# Altium footprint library con-phoenix-762.PCBLIB: 27 footprints (part 1 of 2)
Each footprint in its own frame and in the unit in brackets; x right, y up, seen from the top. Pads: shape width x height; smd on the part's side, far side on the other; paste and mask are expansions set on the pad; w line width, h text height; cw(c..) or ccw(c..) is an arc to the next point about the centre after c.
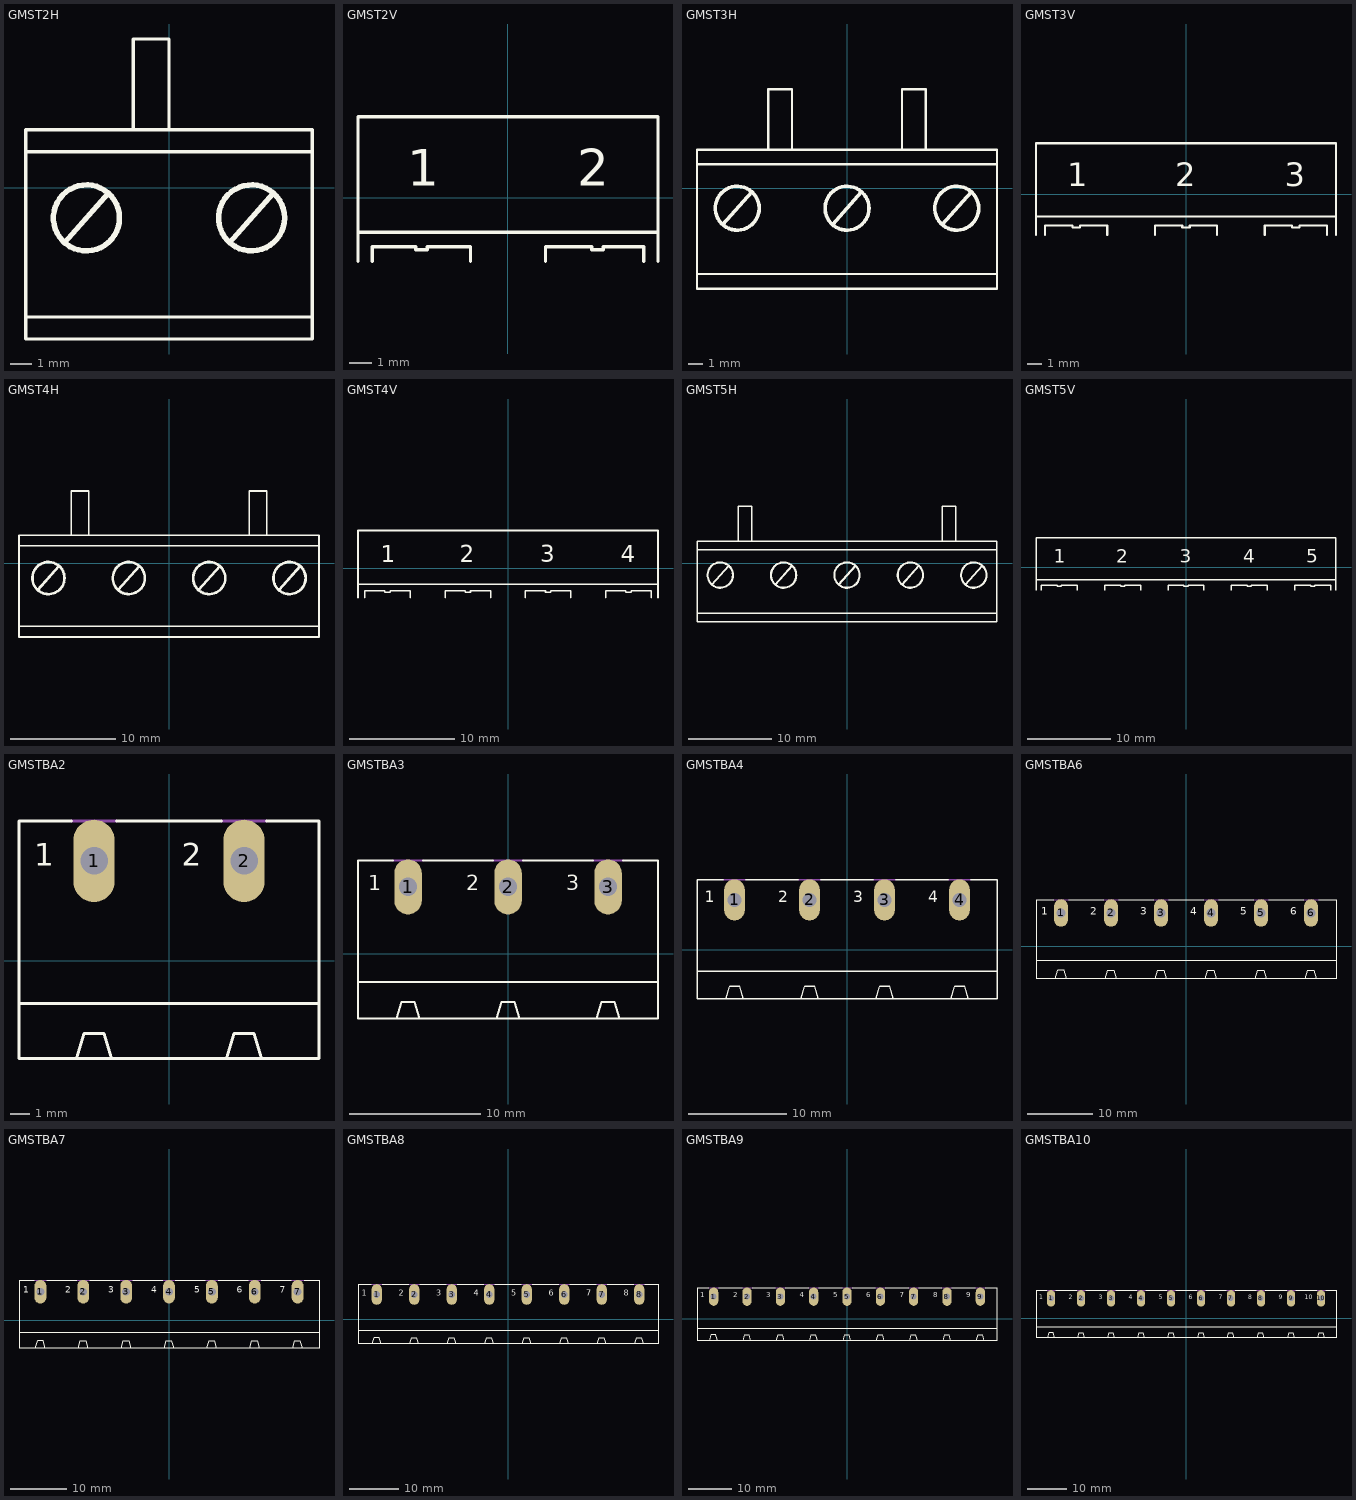
[diagram p0: the footprints below, top view; thin cyan lines are the x and y axes]

## GMST2H [mil]
Top Overlay:
  circle w10: c-150,-55 r60
  circle w10: c150,-55 r60
  lines w6: -260,-235 -260,-275 260,-275 260,-235 ; -260,-235 260,-235 ; -260,-235 -260,65 ; -260,65 260,65 ; -260,65 -260,105 -65,105 ; -65,105 0,105 ; -65,105 -65,270 0,270 0,105 ; 0,105 260,105 260,65 ; 260,-235 260,65
  lines w10: -190,-100 -110,-10 ; 110,-100 190,-10

## GMST2V [mil]
Top Overlay:
  lines w6: -260,-110 -260,-60 ; -235,-110 -235,-85 -160,-85 -160,-90 -140,-90 -140,-85 -65,-85 -65,-110 ; 65,-110 65,-85 145,-85 145,-90 165,-90 165,-85 235,-85 235,-110 ; 260,-110 260,-60 ; -260,-60 -260,140 260,140 260,-60 ; -260,-60 260,-60
  text "1" at -175,0 h108.5
  text "2" at 120,0 h108.5

## GMST3H [mil]
Top Overlay:
  circle w10: c-300,-55 r60
  circle w10: c0,-55 r60
  circle w10: c300,-55 r60
  lines w6: -410,-235 -410,-275 410,-275 410,-235 ; -410,-235 410,-235 ; -410,-235 -410,65 ; -410,65 410,65 ; -410,65 -410,105 -215,105 ; -215,105 -150,105 ; -215,105 -215,270 -150,270 -150,105 ; -150,105 150,105 ; 150,105 215,105 ; 150,105 150,270 215,270 215,105 ; 215,105 410,105 410,65 ; 410,-235 410,65
  lines w10: -340,-100 -260,-10 ; -40,-100 40,-10 ; 260,-100 340,-10

## GMST3V [mil]
Top Overlay:
  lines w6: -410,-110 -410,-60 ; -385,-110 -385,-85 -310,-85 -310,-90 -290,-90 -290,-85 -215,-85 -215,-110 ; -85,-110 -85,-85 -10,-85 -10,-90 10,-90 10,-85 85,-85 85,-110 ; 215,-110 215,-85 290,-85 290,-90 310,-90 310,-85 385,-85 385,-110 ; 410,-110 410,-60 ; -410,-60 -410,140 410,140 410,-60 ; -410,-60 410,-60
  text "1" at -325,0 h108.5
  text "2" at -30,0 h108.5
  text "3" at 270,0 h108.5

## GMST4H [mil]
Top Overlay:
  circle w10: c-450,-55 r60
  circle w10: c-150,-55 r60
  circle w10: c450,-55 r60
  circle w10: c150,-55 r60
  lines w6: -560,-235 -560,-275 560,-275 560,-235 ; -560,-235 560,-235 ; -560,-235 -560,65 ; -560,65 560,65 ; -560,65 -560,105 -365,105 ; -365,105 -300,105 ; -365,105 -365,270 -300,270 -300,105 ; -300,105 300,105 ; 300,105 365,105 ; 300,105 300,270 365,270 365,105 ; 365,105 560,105 560,65 ; 560,-235 560,65
  lines w10: -490,-100 -410,-10 ; -190,-100 -110,-10 ; 110,-100 190,-10 ; 410,-100 490,-10

## GMST4V [mil]
Top Overlay:
  lines w6: -560,-110 -560,-60 ; -535,-110 -535,-85 -460,-85 -460,-90 -440,-90 -440,-85 -365,-85 -365,-110 ; -235,-110 -235,-85 -160,-85 -160,-90 -140,-90 -140,-85 -65,-85 -65,-110 ; 65,-110 65,-85 140,-85 140,-90 160,-90 160,-85 235,-85 235,-110 ; 365,-110 365,-85 440,-85 440,-90 460,-90 460,-85 535,-85 535,-110 ; 560,-110 560,-60 ; -560,-60 -560,140 560,140 560,-60 ; -560,-60 560,-60
  text "1" at -475,0 h108.5
  text "2" at -180,0 h108.5
  text "3" at 120,0 h108.5
  text "4" at 420,0 h108.5

## GMST5H [mil]
Top Overlay:
  circle w10: c-600,-55 r60
  circle w10: c-300,-55 r60
  circle w10: c600,-55 r60
  circle w10: c0,-55 r60
  circle w10: c300,-55 r60
  lines w6: -710,-235 -710,-275 710,-275 710,-235 ; -710,-235 710,-235 ; -710,-235 -710,65 ; -710,65 710,65 ; -710,65 -710,105 -515,105 ; -515,105 -450,105 ; -515,105 -515,270 -450,270 -450,105 ; -450,105 450,105 ; 450,105 515,105 ; 450,105 450,270 515,270 515,105 ; 515,105 710,105 710,65 ; 710,-235 710,65
  lines w10: -640,-100 -560,-10 ; -340,-100 -260,-10 ; -40,-100 40,-10 ; 260,-100 340,-10 ; 560,-100 640,-10

## GMST5V [mil]
Top Overlay:
  lines w6: -710,-110 -710,-60 ; -685,-110 -685,-85 -610,-85 -610,-90 -590,-90 -590,-85 -515,-85 -515,-110 ; -385,-110 -385,-85 -310,-85 -310,-90 -290,-90 -290,-85 -215,-85 -215,-110 ; -85,-110 -85,-85 -10,-85 -10,-90 10,-90 10,-85 85,-85 85,-110 ; 215,-110 215,-85 290,-85 290,-90 310,-90 310,-85 385,-85 385,-110 ; 515,-110 515,-85 590,-85 590,-90 610,-90 610,-85 685,-85 685,-110 ; 710,-110 710,-60 ; -710,-60 -710,140 710,140 710,-60 ; -710,-60 710,-60
  text "1" at -625,0 h108.5
  text "2" at -330,0 h108.5
  text "3" at -30,0 h108.5
  text "4" at 270,0 h108.5
  text "5" at 570,0 h108.5

## GMSTBA2 [mil]
pads (2):
  oval 82.5x165 hole 55: 1(-150,200) 2(150,200)
Top Overlay:
  lines w6: -195,280 -300,280 -300,-85 ; -185,-195 -170,-145 -130,-145 -115,-195 ; -105,280 105,280 ; 115,-195 130,-145 170,-145 185,-195 ; 195,280 300,280 300,-85 ; -300,-85 300,-85 ; -300,-85 -300,-195 300,-195 300,-85
  text "1" at -270,175 h77.5
  text "2" at 25,175 h77.5
Mechanical 16:
  lines w6: -195,280 -105,280 ; 105,280 195,280

## GMSTBA3 [mil]
pads (3):
  oval 82.5x165 hole 55: 1(-300,200) 2(0,200) 3(300,200)
Top Overlay:
  lines w6: -345,280 -450,280 -450,-85 ; -335,-195 -320,-145 -280,-145 -265,-195 ; -255,280 -45,280 ; -35,-195 -20,-145 20,-145 35,-195 ; 45,280 255,280 ; 265,-195 280,-145 320,-145 335,-195 ; 345,280 450,280 450,-85 ; -450,-85 450,-85 ; -450,-85 -450,-195 450,-195 450,-85
  text "1" at -420,175 h77.5
  text "2" at -125,175 h77.5
  text "3" at 175,175 h77.5
Mechanical 16:
  lines w6: -345,280 -255,280 ; -45,280 45,280 ; 255,280 345,280

## GMSTBA4 [mil]
pads (4):
  oval 82.5x165 hole 55: 1(-450,200) 2(-150,200) 3(150,200) 4(450,200)
Top Overlay:
  lines w6: -495,280 -600,280 -600,-85 ; -485,-195 -470,-145 -430,-145 -415,-195 ; -405,280 -195,280 ; -185,-195 -170,-145 -130,-145 -115,-195 ; -105,280 105,280 ; 115,-195 130,-145 170,-145 185,-195 ; 195,280 405,280 ; 495,280 600,280 600,-85 ; -600,-85 600,-85 ; -600,-85 -600,-195 415,-195 ; 415,-195 485,-195 ; 415,-195 430,-145 470,-145 485,-195 ; 485,-195 600,-195 600,-85
  text "1" at -570,175 h77.5
  text "2" at -275,175 h77.5
  text "3" at 25,175 h77.5
  text "4" at 325,175 h77.5
Mechanical 16:
  lines w6: -495,280 -405,280 ; -195,280 -105,280 ; 105,280 195,280 ; 405,280 495,280

## GMSTBA6 [mil]
pads (6):
  oval 82.5x165 hole 55: 1(-750,200) 2(-450,200) 3(-150,200) 4(150,200) 5(450,200) 6(750,200)
Top Overlay:
  lines w6: -795,280 -900,280 -900,-85 ; -785,-195 -770,-145 -730,-145 -715,-195 ; -705,280 -495,280 ; -485,-195 -470,-145 -430,-145 -415,-195 ; -405,280 -195,280 ; -185,-195 -170,-145 -130,-145 -115,-195 ; -105,280 105,280 ; 195,280 405,280 ; 495,280 705,280 ; 795,280 900,280 900,-85 ; -900,-85 900,-85 ; -900,-85 -900,-195 115,-195 ; 115,-195 185,-195 ; 115,-195 130,-145 170,-145 185,-195 ; 185,-195 415,-195 ; 415,-195 485,-195 ; 415,-195 430,-145 470,-145 485,-195 ; 485,-195 715,-195 ; 715,-195 785,-195 ; 715,-195 730,-145 770,-145 785,-195 ; 785,-195 900,-195 900,-85
  text "1" at -870,175 h77.5
  text "2" at -575,175 h77.5
  text "3" at -275,175 h77.5
  text "4" at 25,175 h77.5
  text "5" at 325,175 h77.5
  text "6" at 625,175 h77.5
Mechanical 16:
  lines w6: -795,280 -705,280 ; -495,280 -405,280 ; -195,280 -105,280 ; 105,280 195,280 ; 405,280 495,280 ; 705,280 795,280

## GMSTBA7 [mil]
pads (7):
  oval 82.5x165 hole 55: 1(-900,200) 2(-600,200) 3(-300,200) 4(0,200) 5(300,200) 6(600,200) 7(900,200)
Top Overlay:
  lines w6: -945,280 -1050,280 -1050,-85 ; -935,-195 -920,-145 -880,-145 -865,-195 ; -855,280 -645,280 ; -635,-195 -620,-145 -580,-145 -565,-195 ; -555,280 -345,280 ; -335,-195 -320,-145 -280,-145 -265,-195 ; -255,280 -45,280 ; 45,280 255,280 ; 345,280 555,280 ; 645,280 855,280 ; 945,280 1050,280 1050,-85 ; -1050,-85 1050,-85 ; -1050,-85 -1050,-195 -35,-195 ; -35,-195 35,-195 ; -35,-195 -20,-145 20,-145 35,-195 ; 35,-195 265,-195 ; 265,-195 335,-195 ; 265,-195 280,-145 320,-145 335,-195 ; 335,-195 565,-195 ; 565,-195 635,-195 ; 565,-195 580,-145 620,-145 635,-195 ; 635,-195 865,-195 ; 865,-195 935,-195 ; 865,-195 880,-145 920,-145 935,-195 ; 935,-195 1050,-195 1050,-85
  text "1" at -1020,175 h77.5
  text "2" at -725,175 h77.5
  text "3" at -425,175 h77.5
  text "4" at -125,175 h77.5
  text "5" at 175,175 h77.5
  text "6" at 475,175 h77.5
  text "7" at 775,175 h77.5
Mechanical 16:
  lines w6: -945,280 -855,280 ; -645,280 -555,280 ; -345,280 -255,280 ; -45,280 45,280 ; 255,280 345,280 ; 555,280 645,280 ; 855,280 945,280

## GMSTBA8 [mil]
pads (8):
  oval 82.5x165 hole 55: 1(-1050,200) 2(-750,200) 3(-450,200) 4(-150,200) 5(150,200) 6(450,200) 7(750,200) 8(1050,200)
Top Overlay:
  lines w6: -1095,280 -1200,280 -1200,-85 ; -1085,-195 -1070,-145 -1030,-145 -1015,-195 ; -1005,280 -795,280 ; -785,-195 -770,-145 -730,-145 -715,-195 ; -705,280 -495,280 ; -485,-195 -470,-145 -430,-145 -415,-195 ; -405,280 -195,280 ; -105,280 105,280 ; 195,280 405,280 ; 495,280 705,280 ; 795,280 1005,280 ; 1095,280 1200,280 1200,-85 ; -1200,-85 1200,-85 ; -1200,-85 -1200,-195 -185,-195 ; -185,-195 -115,-195 ; -185,-195 -170,-145 -130,-145 -115,-195 ; -115,-195 115,-195 ; 115,-195 185,-195 ; 115,-195 130,-145 170,-145 185,-195 ; 185,-195 415,-195 ; 415,-195 485,-195 ; 415,-195 430,-145 470,-145 485,-195 ; 485,-195 715,-195 ; 715,-195 785,-195 ; 715,-195 730,-145 770,-145 785,-195 ; 785,-195 1015,-195 ; 1015,-195 1085,-195 ; 1015,-195 1030,-145 1070,-145 1085,-195 ; 1085,-195 1200,-195 1200,-85
  text "1" at -1170,175 h77.5
  text "2" at -875,175 h77.5
  text "3" at -575,175 h77.5
  text "4" at -275,175 h77.5
  text "5" at 25,175 h77.5
  text "6" at 325,175 h77.5
  text "7" at 625,175 h77.5
  text "8" at 925,175 h77.5
Mechanical 16:
  lines w6: -1095,280 -1005,280 ; -795,280 -705,280 ; -495,280 -405,280 ; -195,280 -105,280 ; 105,280 195,280 ; 405,280 495,280 ; 705,280 795,280 ; 1005,280 1095,280

## GMSTBA9 [mil]
pads (9):
  oval 82.5x165 hole 55: 1(-1200,200) 2(-900,200) 3(-600,200) 4(-300,200) 5(0,200) 6(300,200) 7(600,200) 8(900,200) 9(1200,200)
Top Overlay:
  lines w6: -1245,280 -1350,280 -1350,-85 ; -1235,-195 -1220,-145 -1180,-145 -1165,-195 ; -1155,280 -945,280 ; -935,-195 -920,-145 -880,-145 -865,-195 ; -855,280 -645,280 ; -635,-195 -620,-145 -580,-145 -565,-195 ; -555,280 -345,280 ; -255,280 -45,280 ; 45,280 255,280 ; 345,280 555,280 ; 645,280 855,280 ; 945,280 1155,280 ; 1245,280 1350,280 1350,-85 ; -1350,-85 1350,-85 ; -1350,-85 -1350,-195 -335,-195 ; -335,-195 -265,-195 ; -335,-195 -320,-145 -280,-145 -265,-195 ; -265,-195 -35,-195 ; -35,-195 35,-195 ; -35,-195 -20,-145 20,-145 35,-195 ; 35,-195 265,-195 ; 265,-195 335,-195 ; 265,-195 280,-145 320,-145 335,-195 ; 335,-195 565,-195 ; 565,-195 635,-195 ; 565,-195 580,-145 620,-145 635,-195 ; 635,-195 865,-195 ; 865,-195 935,-195 ; 865,-195 880,-145 920,-145 935,-195 ; 935,-195 1165,-195 ; 1165,-195 1235,-195 ; 1165,-195 1180,-145 1220,-145 1235,-195 ; 1235,-195 1350,-195 1350,-85
  text "1" at -1320,175 h77.5
  text "2" at -1025,175 h77.5
  text "3" at -725,175 h77.5
  text "4" at -425,175 h77.5
  text "5" at -125,175 h77.5
  text "6" at 175,175 h77.5
  text "7" at 475,175 h77.5
  text "8" at 775,175 h77.5
  text "9" at 1075,175 h77.5
Mechanical 16:
  lines w6: -1245,280 -1155,280 ; -945,280 -855,280 ; -645,280 -555,280 ; -345,280 -255,280 ; -45,280 45,280 ; 255,280 345,280 ; 555,280 645,280 ; 855,280 945,280 ; 1155,280 1245,280

## GMSTBA10 [mil]
pads (10):
  oval 82.5x165 hole 55: 1(-1350,200) 2(-1050,200) 3(-750,200) 4(-450,200) 5(-150,200) 6(150,200) 7(450,200) 8(750,200) 9(1050,200) 10(1350,200)
Top Overlay:
  lines w6: -1395,280 -1500,280 -1500,-85 ; -1385,-195 -1370,-145 -1330,-145 -1315,-195 ; -1305,280 -1095,280 ; -1085,-195 -1070,-145 -1030,-145 -1015,-195 ; -1005,280 -795,280 ; -785,-195 -770,-145 -730,-145 -715,-195 ; -705,280 -495,280 ; -405,280 -195,280 ; -105,280 105,280 ; 195,280 405,280 ; 495,280 705,280 ; 795,280 1005,280 ; 1095,280 1305,280 ; 1395,280 1500,280 1500,-85 ; -1500,-85 1500,-85 ; -1500,-85 -1500,-195 -485,-195 ; -485,-195 -415,-195 ; -485,-195 -470,-145 -430,-145 -415,-195 ; -415,-195 -185,-195 ; -185,-195 -115,-195 ; -185,-195 -170,-145 -130,-145 -115,-195 ; -115,-195 115,-195 ; 115,-195 185,-195 ; 115,-195 130,-145 170,-145 185,-195 ; 185,-195 415,-195 ; 415,-195 485,-195 ; 415,-195 430,-145 470,-145 485,-195 ; 485,-195 715,-195 ; 715,-195 785,-195 ; 715,-195 730,-145 770,-145 785,-195 ; 785,-195 1015,-195 ; 1015,-195 1085,-195 ; 1015,-195 1030,-145 1070,-145 1085,-195 ; 1085,-195 1315,-195 ; 1315,-195 1385,-195 ; 1315,-195 1330,-145 1370,-145 1385,-195 ; 1385,-195 1500,-195 1500,-85
  text "1" at -1470,175 h77.5
  text "2" at -1175,175 h77.5
  text "3" at -875,175 h77.5
  text "4" at -575,175 h77.5
  text "5" at -275,175 h77.5
  text "6" at 25,175 h77.5
  text "7" at 325,175 h77.5
  text "8" at 625,175 h77.5
  text "9" at 925,175 h77.5
  text "10" at 1185,175 h77.5
Mechanical 16:
  lines w6: -1395,280 -1305,280 ; -1095,280 -1005,280 ; -795,280 -705,280 ; -495,280 -405,280 ; -195,280 -105,280 ; 105,280 195,280 ; 405,280 495,280 ; 705,280 795,280 ; 1005,280 1095,280 ; 1305,280 1395,280